# Altium schematic symbol library Gravix-FB.SchLib: 1 symbol
Pins are listed as number, name and electrical type; pins without a type are passive.

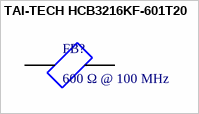
[diagram p0: symbol TAI-TECH HCB3216KF-601T20]

## TAI-TECH HCB3216KF-601T20
designator FB?, comment 600 Ω @ 100 MHz
600Ω@100MHz 1 Line Ferrite Bead 1206 1A 100mΩ; Manufacturer: TAI-TECH; Manufacturer Part Number: HCB3216KF-601T20; LCSC Part Number: C127295; Package: 1206; Mounting Type: SMD; ComponentLink2Description: Digikey Link; ComponentLink3Description: LCSC Link; ComponentLink3URL: https://www.lcsc.com/product-detail/C127295.html?spm=wm.fly.bg.0.xh&lcsc_vid=QlAIX1RQQQJfX1VRTwcNAQJXTlRaUQBVEQBYAwJfFFcxVlNRT1FaVFJTQVhWUjsOAxUeFF5JWBYZEEoBGA4JCwFIFA4DSA%3D%3D
footprint FB_1206
pins: 1, 2